# Altium footprint library 0402_R.PcbLib: 1 footprints
Each footprint in its own frame and in the unit in brackets; x right, y up, seen from the top. Pads: shape width x height; smd on the part's side, far side on the other; paste and mask are expansions set on the pad; w line width, h text height; cw(c..) or ccw(c..) is an arc to the next point about the centre after c.
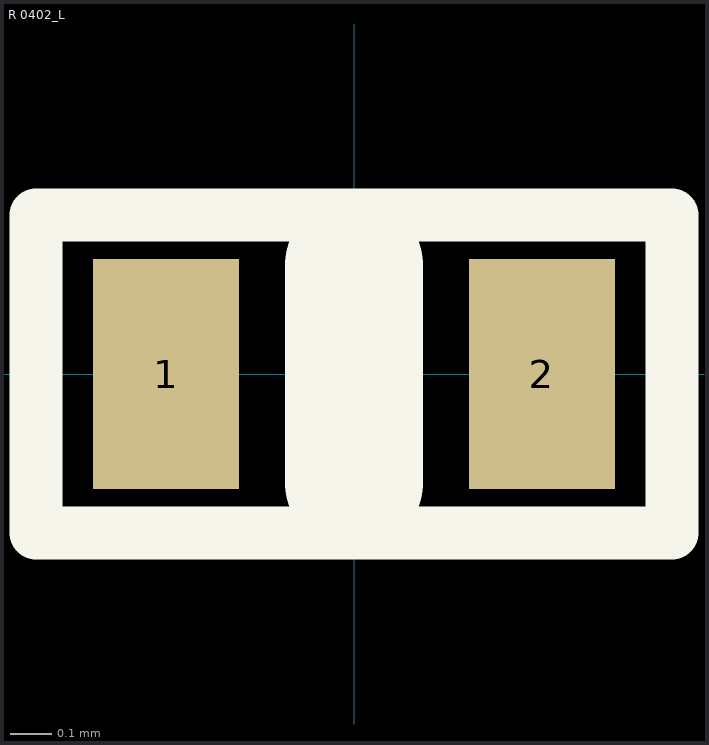
[diagram p0: the footprint, top view; thin cyan lines are the x and y axes]

## R 0402_L [mm] "1/16W贴片电阻 https://item.taobao.com/item.htm?ft=t&id=613637044352"
pads (2):
  rect 0.35x0.55 smd mask+0: 1(-0.45,0) 2(0.45,0)
Top Overlay:
  lines w0.127: -0.762,-0.381 -0.762,0.381 0.762,0.381 0.762,-0.381 -0.762,-0.381
  lines w0.33: 0,-0.26 0,0.26
3D body "R 0402.STEP": height 0.3, standoff 0, extent -0.5,-0.25 0.5,0.25